# Altium footprint library Infineon BSC030P03NS3 G - 8-PowerTDFN - PMOS.PcbLib: 1 footprints
Each footprint in its own frame and in the unit in brackets; x right, y up, seen from the top. Pads: shape width x height; smd on the part's side, far side on the other; paste and mask are expansions set on the pad; w line width, h text height; cw(c..) or ccw(c..) is an arc to the next point about the centre after c.
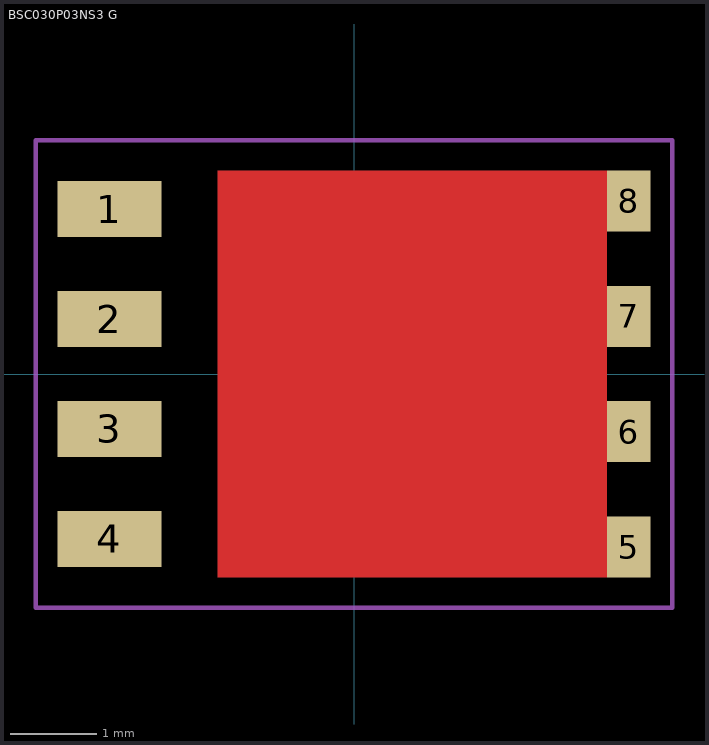
[diagram p0: the footprint, top view; thin cyan lines are the x and y axes]

## BSC030P03NS3 G [mm] "P-Channel 30V 25.4A (Ta), 100A (Tc) 2.5W (Ta), 125W (Tc) Surface Mount PG-TDSON-8"
height 1.1
pads (8):
  rect 1.2x0.65 smd: 1(-2.825,1.905) 2(-2.825,0.635) 3(-2.825,-0.635) 4(-2.825,-1.905)
  rect 0.5x0.703 smd: 5(3.175,-1.999) 6(3.175,-0.666) 7(3.175,0.666) 8(3.175,1.999)
Top Layer:
  region: 2.925,2.35 -1.575,2.35 -1.575,-2.35 2.925,-2.35
Top Paste:
  rectangle: -0.175,1.45 0.425,2.05
  rectangle: 0.925,1.45 1.525,2.05
  rectangle: 2.025,1.45 2.625,2.05
  rectangle: -0.175,0.283 0.425,0.883
  rectangle: 0.925,0.283 1.525,0.883
  rectangle: 2.025,0.283 2.625,0.883
  rectangle: -0.175,-2.05 0.425,-1.45
  rectangle: 0.925,-2.05 1.525,-1.45
  rectangle: 2.025,-2.05 2.625,-1.45
  rectangle: -1.275,0.283 -0.675,0.883
  rectangle: -1.275,1.45 -0.675,2.05
  rectangle: -1.275,-2.05 -0.675,-1.45
  rectangle: 2.025,-0.883 2.625,-0.283
  rectangle: 0.925,-0.883 1.525,-0.283
  rectangle: -0.175,-0.883 0.425,-0.283
  rectangle: -1.275,-0.883 -0.675,-0.283
Mechanical 6:
  text "'.Designator'" at -1.375,-0.225 h0.6
Mechanical 8:
  circle w0.25: c-2.825,1.9 r0.125
  lines w0.05: -3.675,-2.7 -3.675,2.7 3.675,2.7 3.675,-2.7 -3.675,-2.7
Mechanical 15:
  lines w0.05: -3.675,-2.7 3.675,-2.7 3.675,2.7 -3.675,2.7 -3.675,-2.7
  lines w0.1: -0.5,0 0.5,0 ; 0,-0.5 0,0.5
3D body "VSONneworientation.step": height 1, standoff -0.01, extent -2.825,-2.45 3.175,2.45